# Altium integrated library 4311.IntLib: 1 symbol
Pins are listed as number, name and electrical type; pins without a type are passive.

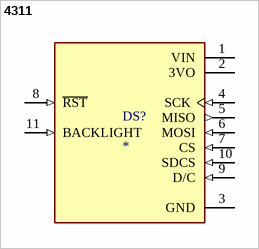
[diagram p0: symbol 4311]

## 4311
designator DS?
Graphic LCD Display Module Red, Green, Blue (RGB) TFT - Color, IPS (In-Plane Switching) SPI 2 (50.80mm) 320 x 240; MF: Adafruit Industries LLC; MP: 4311; SnapEDA_Link: https://www.snapeda.com/parts/4311/Adafruit+Industries/view-part/?ref=snap; Package: None; Value: *; Check_prices: https://www.snapeda.com/parts/4311/Adafruit+Industries/view-part/?ref=eda
footprint MODULE_4311
pins: 1 VIN (power), 2 3VO (power), 3 GND (power), 4 SCK (in), 5 MISO (out), 6 MOSI (in), 7 CS (in), 8 ~{RST} (in), 9 D/C (in), 10 SDCS (in), 11 BACKLIGHT (in)